# Altium footprint library VoltageRegulator.PcbLib: 1 footprints
Each footprint in its own frame and in the unit in brackets; x right, y up, seen from the top. Pads: shape width x height; smd on the part's side, far side on the other; paste and mask are expansions set on the pad; w line width, h text height; cw(c..) or ccw(c..) is an arc to the next point about the centre after c.
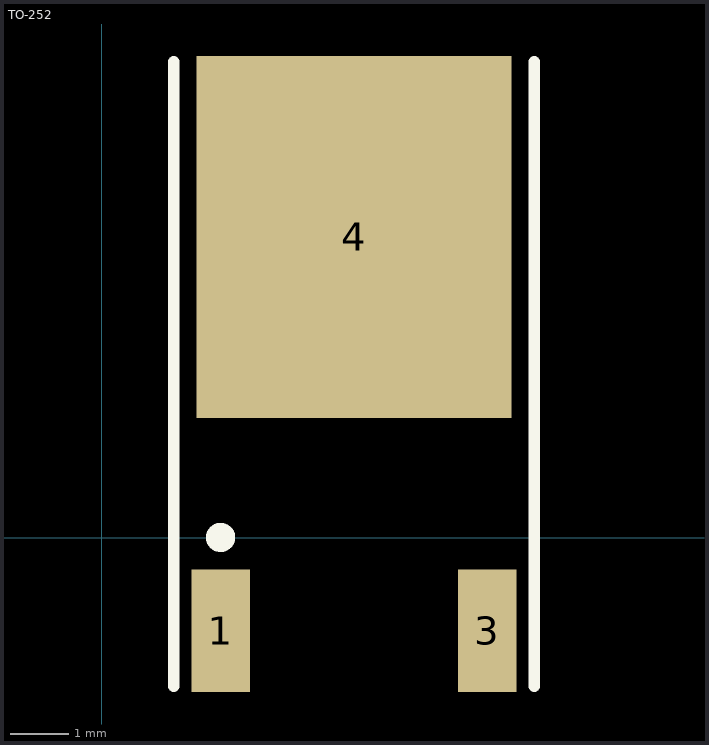
[diagram p0: the footprint, top view; thin cyan lines are the x and y axes]

## TO-252 [mm]
pads (3):
  rect 1x2.1 smd: 1(2.033,-1.597) 3(6.603,-1.597)
  rect 5.4x6.2 smd: 4(4.318,5.153)
Top Overlay:
  circle w0.25: c2.033,0.003 r0.125
  lines w0.2: 1.233,-2.547 1.233,8.153 ; 7.403,-2.547 7.403,8.153